# EAGLE library part TLC272-SMD (library Eagle_CAD_parts)
LinCMOS. PRECISION DUAL OPERATIONAL AMPLIFIERS
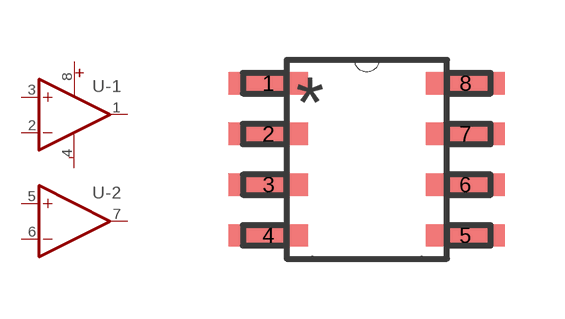
[diagram p7: symbol with the pads of 8SOIC; footprint 8SOIC]

Designator prefix U; gates -1=OPAMP-COMUN -2=OPAMP-COMUN G$3=ALIMENTACION

## TLC272-SMD (MPN: TLC272ACD; OC_FARNELL: 9547746; OC_NEWARK: 76C7203; PACKAGE: SOIC-8; SUPPLIER: Texas Instruments)  [8SOIC]
1  -1:OUT  oc
2  -1:-IN  in
3  -1:+IN  in
4  G$3:V-  pwr
5  -2:+IN  in
6  -2:-IN  in
7  -2:OUT  oc
8  G$3:V+  pwr

## Footprint 8SOIC (pad centres in mm)
smd 1.981 x 0.559: 1 -2.464,1.905; 2 -2.464,0.635; 3 -2.464,-0.635; 4 -2.464,-1.905; 5 2.464,-1.905; 6 2.464,-0.635; 7 2.464,0.635; 8 2.464,1.905